# Altium integrated library Resistors_TH.IntLib: 1 symbol
Pins are listed as number, name and electrical type; pins without a type are passive.

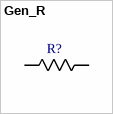
[diagram p0: symbol Gen_R]

## Gen_R
designator R?
Generic; Vendor: Susumu; Built_By: MA_UL_Team; SourceLibrary: usumu_2015_05_08; Copyright: Copyright (C) 2018 Accelerated Designs. All rights reserved; RefDes: RefDes; Type: DEV
footprint 1/4 watt TH
pins: 1, 2